# Altium schematic symbol library 4PINHEADER.SchLib: 1 symbol
Pins are listed as number, name and electrical type; pins without a type are passive.

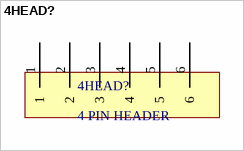
[diagram p0: symbol 4HEAD?]

## 4HEAD?
designator 4HEAD?, comment 4 PIN HEADER
footprint 4 PIN HEADER
pins: 1, 2, 3, 4, 5, 6